# Altium schematic symbol library TLV62595DMQR.SchLib: 1 symbol
Pins are listed as number, name and electrical type; pins without a type are passive.

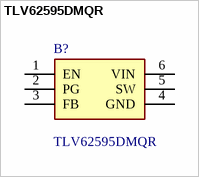
[diagram p0: symbol TLV62595DMQR]

## TLV62595DMQR
designator B?
Conv DC-DC 2.5V to 5.5V Synchronous Step Down Single-Out 0.6V to 4V 4A 6-Pin VSON-HR T/R; Manufacturer_Name: Texas Instruments; Geometry.Height: 1mm; Manufacturer_Part_Number: TLV62595DMQR; Mouser Part Number: 595-TLV62595DMQR; Mouser Price/Stock: https://www.mouser.co.uk/ProductDetail/Texas-Instruments/TLV62595DMQR?qs=IS%252B4QmGtzzrUF%252B1uc1ZRLQ%3D%3D; Arrow Part Number: TLV62595DMQR; Arrow Price/Stock: https://www.arrow.com/en/products/tlv62595dmqr/texas-instruments?region=nac; Datasheet Link: https://www.ti.com/lit/ds/symlink/tlv62595.pdf?HQS=dis-dk-null-digikeymode-dsf-pf-null-wwe&ts=1622796971373&ref_url=https%253A%252F%252Fwww.digikey.in%252F
footprint TLV62595DMQR
pins: 1 EN, 2 PG, 3 FB, 4 GND, 5 SW, 6 VIN